# Altium footprint library SamacSys.PcbLib: 26 footprints (part 1 of 2)
Each footprint in its own frame and in the unit in brackets; x right, y up, seen from the top. Pads: shape width x height; smd on the part's side, far side on the other; paste and mask are expansions set on the pad; w line width, h text height; cw(c..) or ccw(c..) is an arc to the next point about the centre after c.
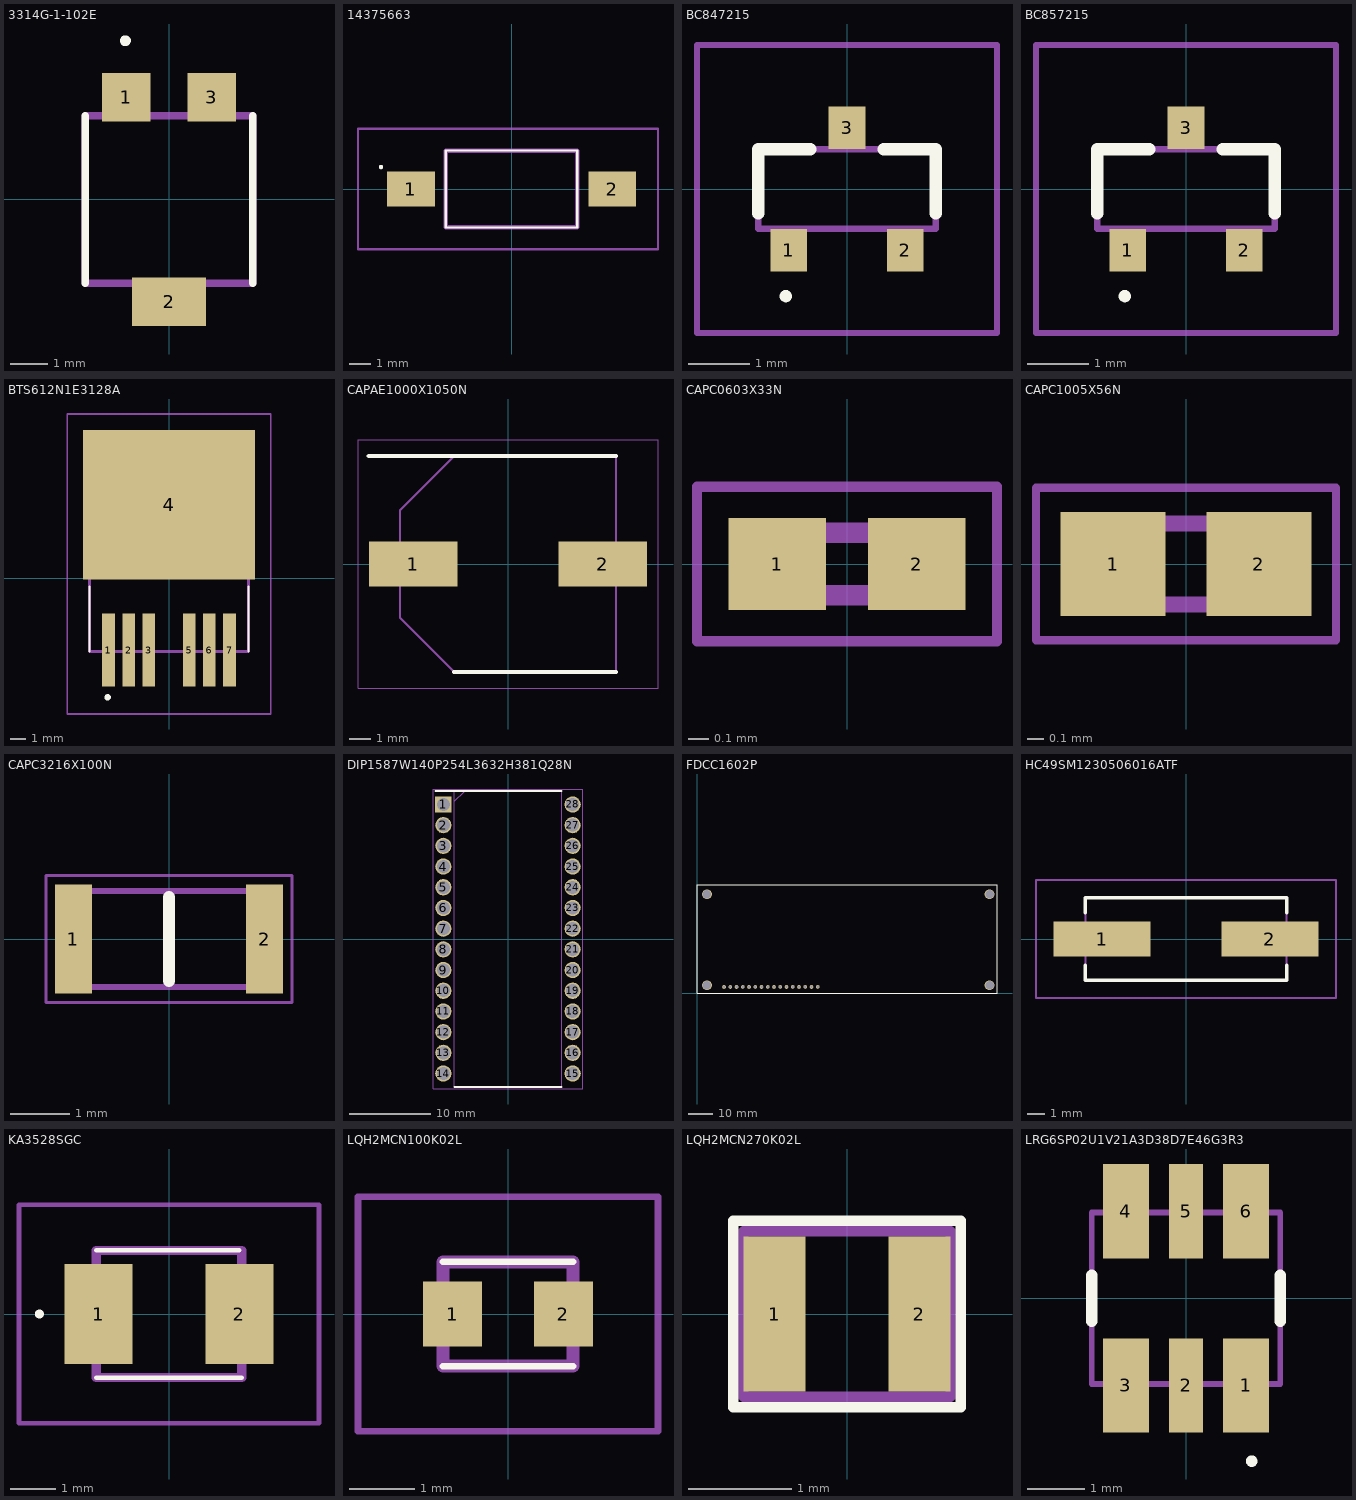
[diagram p0: the footprints below, top view; thin cyan lines are the x and y axes]

## 3314G-1-102E [mm]
pads (3):
  rect 1.3x1.3 smd: 1(-1.15,2.75) 3(1.15,2.75)
  rect 2x1.3 smd: 2(0,-2.75)
Top Overlay:
  circle w0.2: c-1.172,4.268 r0.045
  lines w0.2: -2.25,-2.25 -2.25,2.25 ; 2.25,-2.25 2.25,2.25
Mechanical 13:
  lines w0.2: -2.25,-2.25 2.25,-2.25 2.25,2.25 -2.25,2.25 -2.25,-2.25
3D body "3314G-1-103E.stp": height 2.73, standoff 0, extent -2.5,-3.099 2.5,3.099

## 14375663 [mm]
pads (2):
  rect 2.18x1.6 smd: 1(-4.59,0) 2(4.59,0)
Top Overlay:
  lines w0.1: -6,1 cw(c-5.95,1) -5.9,1 cw(c-5.95,1) -6,1 ; -3,-1.75 -3,1.75 3,1.75 3,-1.75 -3,-1.75
Mechanical 13:
  lines w0.2: -3,-1.75 -3,1.75 3,1.75 3,-1.75 -3,-1.75
Mechanical 15:
  lines w0.1: -7,-2.75 -7,2.75 ; -7,-2.75 6.68,-2.75 ; -7,-2.75 -7,2.75 ; -7,-2.75 6.68,-2.75 ; -7,2.75 6.68,2.75 ; -7,2.75 6.68,2.75 ; 6.68,-2.75 6.68,2.75 ; 6.68,-2.75 6.68,2.75
3D body "1437566-3.stp": height 4.41, standoff -0.01, extent -5.145,-1.75 4.825,1.75

## BC847215 [mm]
pads (3):
  rect 0.6x0.7 smd: 1(-0.95,-1) 2(0.95,-1) 3(0,1)
Top Overlay:
  lines w0.1: -1,-1.8 cw(c-1,-1.75) -1,-1.7 cw(c-1,-1.75) -1,-1.8
  lines w0.2: -1.45,-0.4 -1.45,0.65 -0.6,0.65 ; 0.6,0.65 1.45,0.65 1.45,-0.4
Mechanical 13:
  lines w0.1: -1.45,-0.65 -1.45,0.65 1.45,0.65 1.45,-0.65 -1.45,-0.65
Mechanical 15:
  lines w0.1: -2.45,-2.35 -2.45,2.35 2.45,2.35 2.45,-2.35 -2.45,-2.35
3D body "BC847,215.stp": height 0.95, standoff 0, extent -1.452,-1.201 1.448,1.199

## BC857215 [mm]
pads (3):
  rect 0.6x0.7 smd: 1(-0.95,-1) 2(0.95,-1) 3(0,1)
Top Overlay:
  lines w0.1: -1,-1.8 cw(c-1,-1.75) -1,-1.7 cw(c-1,-1.75) -1,-1.8
  lines w0.2: -1.45,-0.4 -1.45,0.65 -0.6,0.65 ; 0.6,0.65 1.45,0.65 1.45,-0.4
Mechanical 13:
  lines w0.1: -1.45,-0.65 -1.45,0.65 1.45,0.65 1.45,-0.65 -1.45,-0.65
Mechanical 15:
  lines w0.1: -2.45,-2.35 -2.45,2.35 2.45,2.35 2.45,-2.35 -2.45,-2.35
3D body "BC857,215.stp": height 0.95, standoff 0, extent -1.452,-1.201 1.448,1.199

## BTS612N1E3128A [mm]
pads (7):
  rect 0.8x4.6 smd: 1(-3.81,-4.525) 2(-2.54,-4.525) 3(-1.27,-4.525) 5(1.27,-4.525) 6(2.54,-4.525) 7(3.81,-4.525)
  rect 10.8x9.4 smd: 4(0,4.625)
Top Overlay:
  lines w0.1: -5,-4.625 -5,-0.5 ; 5,-4.625 5,-0.5
  lines w0.3: -3.91,-7.5 ccw(c-3.86,-7.5) -3.81,-7.5 ccw(c-3.86,-7.5) -3.91,-7.5
Mechanical 13:
  lines w0.2: -5,-4.625 -5,4.625 5,4.625 5,-4.625 -5,-4.625
Mechanical 15:
  lines w0.1: -6.4,-8.55 -6.4,10.325 6.4,10.325 6.4,-8.55 -6.4,-8.55

## CAPAE1000X1050N [mm]
pads (2):
  rect 4.1x2.1 smd: 1(-4.4,0) 2(4.4,0)
Top Overlay:
  lines w0.2: -6.45,5 5,5 ; -2.5,-5 5,-5
Mechanical 13:
  lines w0.1: -5,-2.5 -5,2.5 -2.5,5 5,5 5,-5 -2.5,-5 -5,-2.5
Mechanical 15:
  lines w0.05: -6.95,-5.75 6.95,-5.75 6.95,5.75 -6.95,5.75 -6.95,-5.75
3D body "HVK-50V101MH10E-R2.stp": height 10.5, standoff 0, extent -5.65,-5.25 5.65,5.25

## CAPC0603X33N [mm]
pads (2):
  rect 0.47x0.44 smd: 1(-0.335,0) 2(0.335,0)
Mechanical 13:
  lines w0.1: -0.3,-0.15 -0.3,0.15 0.3,0.15 0.3,-0.15 -0.3,-0.15
Mechanical 15:
  lines w0.05: -0.72,-0.37 -0.72,0.37 0.72,0.37 0.72,-0.37 -0.72,-0.37
3D body "02013A120JAT2A.stp": height 0.33, standoff 0, extent -0.3,-0.15 0.3,0.15

## CAPC1005X56N [mm]
pads (2):
  rect 0.65x0.64 smd: 1(-0.45,0) 2(0.45,0)
Mechanical 13:
  lines w0.1: -0.5,-0.25 -0.5,0.25 0.5,0.25 0.5,-0.25 -0.5,-0.25
Mechanical 15:
  lines w0.05: -0.925,-0.47 -0.925,0.47 0.925,0.47 0.925,-0.47 -0.925,-0.47
3D body "04023A0R8CAT2A.stp": height 0.56, standoff 0, extent -0.5,-0.25 0.5,0.25

## CAPC3216X100N [mm]
pads (2):
  rect 0.62x1.82 smd: 1(-1.6,0) 2(1.6,0)
Top Overlay:
  lines w0.2: 0,-0.7 0,0.7
Mechanical 13:
  lines w0.1: -1.6,-0.8 -1.6,0.8 1.6,0.8 1.6,-0.8 -1.6,-0.8
Mechanical 15:
  lines w0.05: -2.06,-1.06 -2.06,1.06 2.06,1.06 2.06,-1.06 -2.06,-1.06
3D body "C3216C0G2A472J085AA.stp": height 1.6, standoff 0, extent -1.65,-0.8 1.55,0.8

## DIP1587W140P254L3632H381Q28N [mm]
pads (28):
  rect 1.997x1.997 hole 1.597: 1(-7.935,16.51)
  round 1.997 hole 1.597: 2(-7.935,13.97) 3(-7.935,11.43) 4(-7.935,8.89) 5(-7.935,6.35) 6(-7.935,3.81) 7(-7.935,1.27) 8(-7.935,-1.27) 9(-7.935,-3.81) 10(-7.935,-6.35) 11(-7.935,-8.89) 12(-7.935,-11.43) 13(-7.935,-13.97) 14(-7.935,-16.51) 15(7.935,-16.51) 16(7.935,-13.97) 17(7.935,-11.43) 18(7.935,-8.89) 19(7.935,-6.35) 20(7.935,-3.81) 21(7.935,-1.27) 22(7.935,1.27) 23(7.935,3.81) 24(7.935,6.35) 25(7.935,8.89) 26(7.935,11.43) 27(7.935,13.97) 28(7.935,16.51)
Top Overlay:
  lines w0.2: -8.934,18.161 6.604,18.161 ; -6.604,-18.161 6.604,-18.161
Mechanical 13:
  lines w0.1: -6.604,16.891 -5.334,18.161 ; -6.604,-18.161 6.604,-18.161 6.604,18.161 -6.604,18.161 -6.604,-18.161
Mechanical 15:
  lines w0.05: -9.184,-18.411 9.184,-18.411 9.184,18.411 -9.184,18.411 -9.184,-18.411
3D body "AS6C62256-55PCN.stp": height 3.81, standoff -3.5, extent -8.284,-18.161 8.284,18.161

## FDCC1602P [mm] "Display"
pads (16):
  round 1.5 hole 1: 1(44.02,2.5) 2(41.48,2.5) 3(38.94,2.5) 4(36.4,2.5) 5(33.86,2.5) 6(31.32,2.5) 7(28.78,2.5) 8(26.24,2.5) 9(23.7,2.5) 10(21.16,2.5) 11(18.62,2.5) 12(16.08,2.5) 13(13.54,2.5) 14(11,2.5) 15(46.56,2.5) 16(49.1,2.5)
via 4,3.2 diameter 4 hole 3.5
via 4,40.2 diameter 4 hole 3.5
via 119,40.2 diameter 4 hole 3.5
via 119,3.2 diameter 4 hole 3.5
Top Overlay:
  lines w0.1: 3.5,0 61,0 ; 10.5,0 0,0 ; 0,0 0,44 122,44 122,0 0,0

## HC49SM1230506016ATF [mm]
pads (2):
  rect 5.5x2 smd: 1(-4.75,0) 2(4.75,0)
Top Overlay:
  lines w0.2: -5.7,-2.35 -5.7,-1.5 -5.7,-2.35 ; -5.7,-2.35 5.7,-2.35 ; -5.7,-2.35 5.7,-2.35 ; -5.7,2.35 -5.7,1.5 -5.7,2.35 ; -5.7,2.35 5.7,2.35 ; -5.7,2.35 5.7,2.35 ; 5.7,-2.35 5.7,-1.5 5.7,-2.35 ; 5.7,2.35 5.7,1.5 5.7,2.35
Mechanical 13:
  lines w0.1: -5.7,-2.35 -5.7,2.35 5.7,2.35 5.7,-2.35 -5.7,-2.35
Mechanical 15:
  lines w0.1: -8.5,-3.35 -8.5,3.35 8.5,3.35 8.5,-3.35 -8.5,-3.35
3D body "HC49SM-12-30-50-60-16-ATF.stp": height 4.1, standoff 0, extent -7.3,-2.35 7.3,2.35

## KA3528SGC [mm]
pads (2):
  rect 1.5x2.2 smd: 1(-1.55,0) 2(1.55,0)
Top Overlay:
  lines w0.1: -2.9,0 ccw(c-2.85,0) -2.8,0 ccw(c-2.85,0) -2.9,0 ; -1.6,-1.4 1.6,-1.4 -1.6,-1.4 ; -1.6,1.4 1.55,1.4 -1.6,1.4
Mechanical 13:
  lines w0.2: -1.6,-1.4 -1.6,1.4 1.6,1.4 1.6,-1.4 -1.6,-1.4
Mechanical 15:
  lines w0.1: -3.3,-2.4 -3.3,2.4 3.3,2.4 3.3,-2.4 -3.3,-2.4
3D body "KA-3528SGC.stp": height 2.1, standoff 0, extent -1.75,-1.4 1.75,1.4

## LQH2MCN100K02L [mm]
pads (2):
  rect 0.9x1 smd: 1(-0.85,0) 2(0.85,0)
Top Overlay:
  lines w0.1: -1,-0.8 1,-0.8 ; -1,0.8 1,0.8
Mechanical 13:
  lines w0.2: -1,-0.8 -1,0.8 1,0.8 1,-0.8 -1,-0.8
Mechanical 15:
  lines w0.1: -2.3,-1.8 -2.3,1.8 2.3,1.8 2.3,-1.8 -2.3,-1.8
3D body "LQH2MCN270K02L.stp": height 0.97, standoff 0, extent -1,-0.8 1,0.8

## LQH2MCN270K02L [mm] "Inductor"
pads (2):
  rect 0.6x1.5 / inner round 0 / far side round 0 all layers, no hole: 1(-0.7,0) 2(0.7,0)
Top Overlay:
  lines w0.1: -1.1,-0.9 -1.1,0.9 1.1,0.9 1.1,-0.9 -1.1,-0.9
Mechanical 1:
  lines w0.1: -1,-0.8 -1,0.8 1,0.8 1,-0.8 -1,-0.8

## LRG6SP02U1V21A3D38D7E46G3R3 [mm]
pads (6):
  rect 0.8x1.65 smd: 1(1.05,-1.525) 3(-1.05,-1.525) 4(-1.05,1.525) 6(1.05,1.525)
  rect 0.6x1.65 smd: 2(0,-1.525) 5(0,1.525)
Top Overlay:
  lines w0.1: 1.15,-2.9 cw(c1.15,-2.85) 1.15,-2.8 cw(c1.15,-2.85) 1.15,-2.9
  lines w0.2: -1.65,-0.4 -1.65,0.4 ; 1.65,-0.4 1.65,0.4
Mechanical 13:
  lines w0.1: -1.65,-1.5 -1.65,1.5 1.65,1.5 1.65,-1.5 -1.65,-1.5
3D body "LW_G6SP_20080702_geometry.STEP": height 1.85, standoff 0.02, extent -1.668,-1.681 1.632,1.719